# EAGLE library part HFR040RA (library con-thomas-betts)
THOMAS&BETTS
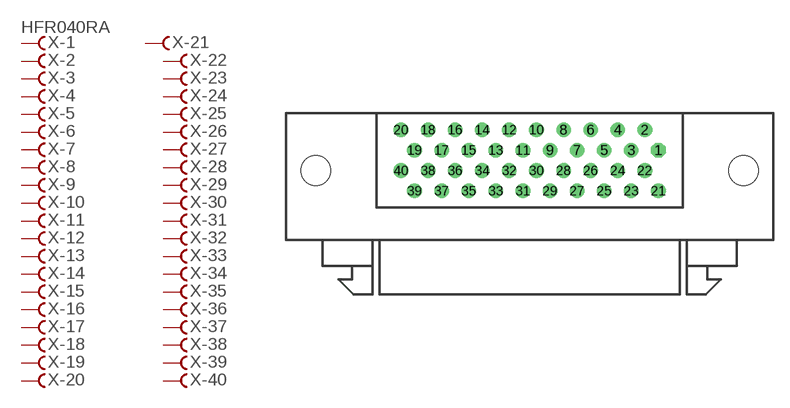
[diagram p8: symbol with the pads of HFR040RA; footprint HFR040RA]

Designator prefix X; gates -1=FV -2=F -3=F -4=F -5=F -6=F -7=F -8=F -9=F -10=F -11=F -12=F -13=F -14=F -15=F -16=F -17=F -18=F -19=F -20=F -21=F -22=F -23=F -24=F -25=F -26=F -27=F -28=F -29=F -30=F -31=F -32=F -33=F -34=F -35=F -36=F -37=F -38=F -39=F -40=F

## HFR040RA (OC_FARNELL: unknown; OC_NEWARK: unknown)  [HFR040RA]
1  -1:F  pas
2  -2:F  pas
3  -3:F  pas
4  -4:F  pas
5  -5:F  pas
6  -6:F  pas
7  -7:F  pas
8  -8:F  pas
9  -9:F  pas
10  -10:F  pas
11  -11:F  pas
12  -12:F  pas
13  -13:F  pas
14  -14:F  pas
15  -15:F  pas
16  -16:F  pas
17  -17:F  pas
18  -18:F  pas
19  -19:F  pas
20  -20:F  pas
21  -21:F  pas
22  -22:F  pas
23  -23:F  pas
24  -24:F  pas
25  -25:F  pas
26  -26:F  pas
27  -27:F  pas
28  -28:F  pas
29  -29:F  pas
30  -30:F  pas
31  -31:F  pas
32  -32:F  pas
33  -33:F  pas
34  -34:F  pas
35  -35:F  pas
36  -36:F  pas
37  -37:F  pas
38  -38:F  pas
39  -39:F  pas
40  -40:F  pas

## Footprint HFR040RA (pad centres in mm)
THOMAS&BETTS Fine Pitch "D" Connector HFR040RA29xxx
drill 0.864 octagon: 1 12.065,6.98
drill 0.864: 2 10.795,8.89; 3 9.525,6.98; 4 8.255,8.89; 5 6.985,6.98; 6 5.715,8.89; 7 4.445,6.98; 8 3.175,8.89; 9 1.905,6.98; 10 0.635,8.89; 11 -0.635,6.98; 12 -1.905,8.89; 13 -3.175,6.98; 14 -4.445,8.89; 15 -5.715,6.98; 16 -6.985,8.89; 17 -8.255,6.98; 18 -9.525,8.89; 19 -10.795,6.98; 20 -12.065,8.89; 21 12.065,3.16; 22 10.795,5.07; 23 9.525,3.16; 24 8.255,5.07; 25 6.985,3.16; 26 5.715,5.07; 27 4.445,3.16; 28 3.175,5.07; 29 1.905,3.16; 30 0.635,5.07; 31 -0.635,3.16; 32 -1.905,5.07; 33 -3.175,3.16; 34 -4.445,5.07; 35 -5.715,3.16; 36 -6.985,5.07; 37 -8.255,3.16; 38 -9.525,5.07; 39 -10.795,3.16; 40 -12.065,5.07
hole 2.769 at 20.066,5.07
hole 2.769 at -20.066,5.07